# Altium footprint library TO1016P1601X521X2451-2.PcbLib: 1 footprints
Each footprint in its own frame and in the unit in brackets; x right, y up, seen from the top. Pads: shape width x height; smd on the part's side, far side on the other; paste and mask are expansions set on the pad; w line width, h text height; cw(c..) or ccw(c..) is an arc to the next point about the centre after c.
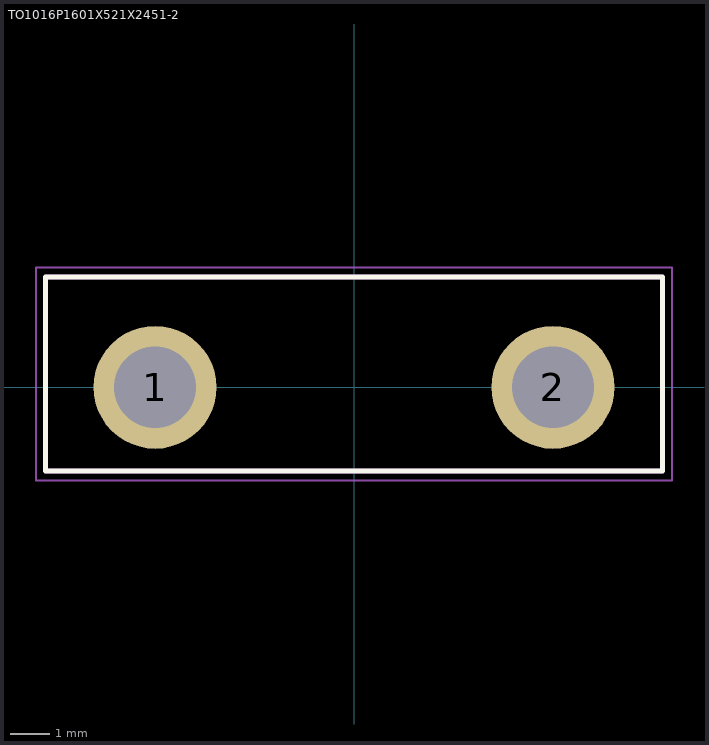
[diagram p0: the footprint, top view; thin cyan lines are the x and y axes]

## TO1016P1601X521X2451-2 [mm]
pads (2):
  round 3.14 hole 2.09: 1(-5.08,0) 2(5.08,0)
Top Overlay:
  lines w0.127: -7.875,-2.135 7.875,-2.135 7.875,2.815 -7.875,2.815 -7.875,-2.135
Mechanical 13:
  lines w0.127: -7.875,-2.135 -7.875,2.815 7.875,2.815 7.875,-2.135 -7.875,-2.135
Mechanical 15:
  lines w0.05: -8.125,-2.385 -8.125,3.065 8.125,3.065 8.125,-2.385 -8.125,-2.385